# Altium footprint library TI_J0014A.PcbLib: 1 footprints
Each footprint in its own frame and in the unit in brackets; x right, y up, seen from the top. Pads: shape width x height; smd on the part's side, far side on the other; paste and mask are expansions set on the pad; w line width, h text height; cw(c..) or ccw(c..) is an arc to the next point about the centre after c.
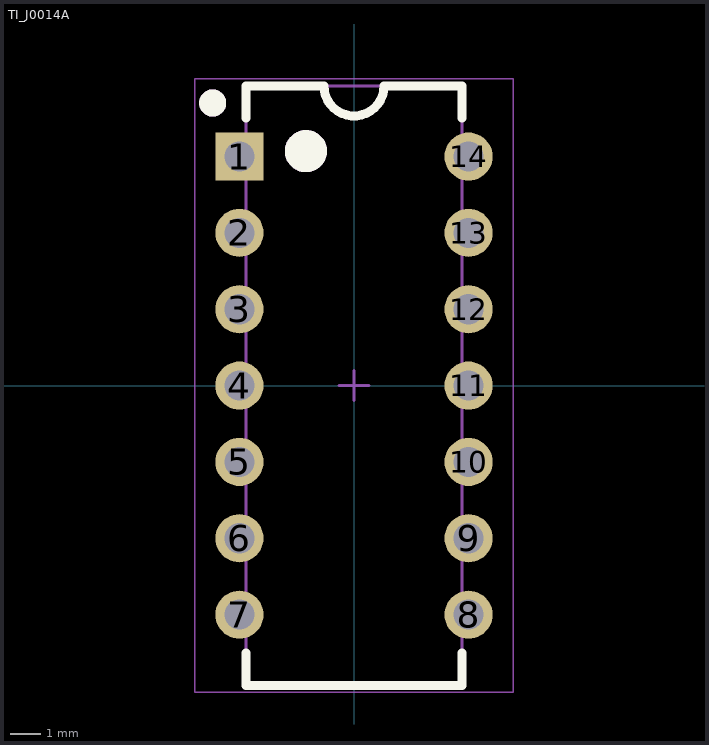
[diagram p0: the footprint, top view; thin cyan lines are the x and y axes]

## TI_J0014A [mm] "TI_J0014A"
height 5.08
pads (14):
  rect 1.6x1.6 hole 1 mask+0.05: 1(-3.81,7.62)
  round 1.6 hole 1 mask+0.05: 2(-3.81,5.08) 3(-3.81,2.54) 4(-3.81,0) 5(-3.81,-2.54) 6(-3.81,-5.08) 7(-3.81,-7.62) 8(3.81,-7.62) 9(3.81,-5.08) 10(3.81,-2.54) 11(3.81,0) 12(3.81,2.54) 13(3.81,5.08) 14(3.81,7.62)
Top Overlay:
  circle w0.8: c-1.6,7.8 r0.3
  circle w0.5: c-4.7,9.4 r0.2
  lines w0.3: -3.595,-8.9 -3.595,-9.97 3.595,-9.97 3.595,-8.9 ; -3.595,8.9 -3.595,9.97 -1,9.97 ccw(c0,9.97) 1,9.97 3.595,9.97 3.595,8.9
Mechanical 13:
  circle w0.8: c-1.6,7.8 r0.3
  circle w0.5: c-4.7,9.4 r0.2
  lines w0.1: -3.595,-9.97 -3.595,9.97 3.595,9.97 3.595,-9.97 -3.595,-9.97
Mechanical 15:
  lines w0.05: -5.3,-10.2 -5.3,10.2 5.3,10.2 5.3,-10.2 -5.3,-10.2
  lines w0.1: -0.5,0 0.5,0 ; 0,-0.5 0,0.5
3D body "TI_J0014A.stp": height 5.08, standoff -3.29, extent -3.937,-9.842 3.937,9.842